# Altium integrated library Analog Devices Data Converters Analog-to-Digital Converters.IntLib: 2404 symbols (part 157 of 346)
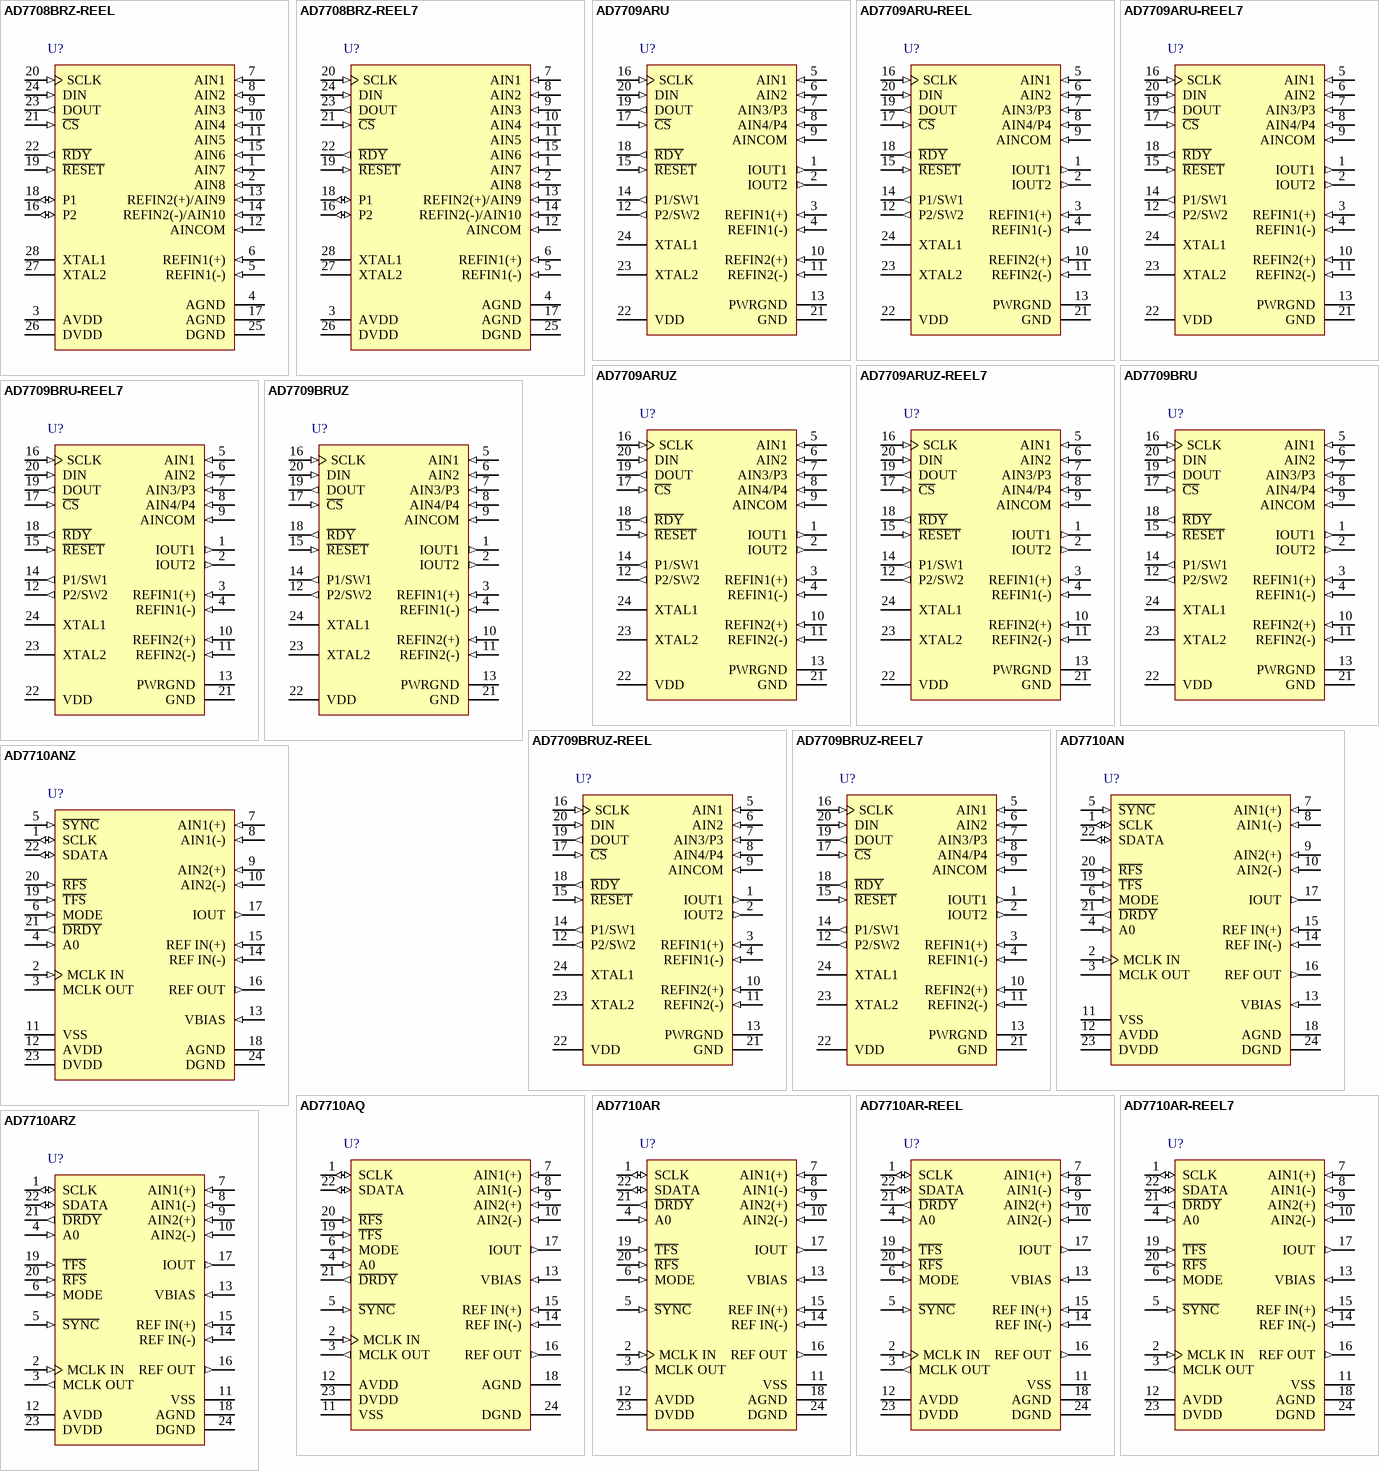
[diagram p241: symbols AD7708BRZ-REEL to AD7710ARZ]

## AD7708BRZ-REEL
designator U?
10 Channel 16-Bit Low Power Sigma-Delta Analog-to-Digital Converter with Serial, SPI Interface, 1.365KSPS, -40 to +85 degC, RW-28, Pb-Free, Reel; Generic Part Number: AD7708; Manufacturer: Analog Devices; PartNumber: AD7708BRZ-REEL; Resolution (Bits): 16; Channels: 10; Throughput Rate (SPS): 1.365K; Interface: Ser, SPI; DatasheetVersion: Rev.0; PackageVersion: 060706-A; PackageReference: RW-28; PackageDescription: 28-Lead Standard Small Outline Package [SOIC_W]; Supplier 1: Digi-Key; Supplier Part Number 1: AD7708BRZ-REEL-ND; Supplier 2: Mouser; Supplier Part Number 2: 584-AD7708BRZ-R; RoHS: Y; Packing: Reel; Mounting Technology: Surface Mount; Code_JEDEC: MS-013-AE; ComponentLink1Description: Manufacturer URL; ComponentLink1URL: http://www.analog.com/en/index.html; ComponentLink2Description: Datasheet; ComponentLink2URL: http://www.analog.com/static/imported-files/data_sheets/AD7708_7718.pdf; ComponentLink3Description: Package Specification; ComponentLink3URL: http://www.analog.com/static/imported-files/packages/35833120341221RW_28.pdf; ComponentLink4Description: Product URL; ComponentLink4URL: http://www.analog.com/en/analog-to-digital-converters/ad-converters/ad7708/products/product.html
footprint RW-28_N (SOIC, 28-Leads, Body 17.9x7.5mm, Pitch 1.27mm, IPC Medium Density)
footprint RW-28_L (SOIC, 28-Leads, Body 17.9x7.5mm, Pitch 1.27mm, IPC High Density)
footprint RW-28_M (SOIC, 28-Leads, Body 17.9x7.5mm, Pitch 1.27mm, IPC Low Density)
pins: 1 AIN7 (in) "Analog Input Channel 7. Programmable-gain analog input that can be used as a pseudo-differential input when used with AINCOM, or as the positive input of a fully-differential input pair when used with AIN8. (See ADC Control (See Datasheet)", 2 AIN8 (in) "Analog Input Channel 8. Programmable-gain analog input that can be used as a pseudo-differential input when used with AINCOM, or as the negative input of a fully-differential input pair when used with AIN7. (See ADC Control (See Datasheet)", 3 AVDD (power) "Analog Supply Voltage", 4 AGND (power) "Analog Ground", 5 REFIN1(-) (in) "Negative Reference Input. This reference input can lie anywhere between AGND and AVDD - 1 V.", 6 REFIN1(+) (in) "Positive reference input. REFIN(+) can lie anywhere between AVDD and AGND. The nominal reference voltage [REFIN(+)-REFIN(-)] is 2.5 V but the part is functional with a reference range from 1 V to AVDD.", 7 AIN1 (in) "Analog Input Channel 1. Programmable-gain analog input that can be used as a pseudo-differential input when used with AINCOM, or as the positive input of a fully-differential input pair when used with AIN2. (See ADC Control (See Datasheet)", 8 AIN2 (in) "Analog Input Channel 2. Programmable-gain analog input that can be used as a pseudo-differential input when used with AINCOM, or as the negative input of a fully-differential input pair when used with AIN1. (See ADC Control (See Datasheet)", 9 AIN3 (in) "Analog Input Channel 3. Programmable-gain analog input that can be used as a pseudo-differential input when used with AINCOM, or as the positive input of a fully-differential input pair when used with AIN4. (See ADC Control (See Datasheet)", 10 AIN4 (in) "Analog Input Channel 4. Programmable-gain analog input that can be used as a pseudo-differential input when used with AINCOM, or as the negative input of a fully-differential input pair when used with AIN3. (See ADC Control (See Datasheet)", 11 AIN5 (in) "Analog Input Channel 5. Programmable-gain analog input that can be used as a pseudo-differential input when used with AINCOM, or as the positive input of a fully-differential input pair when used with AIN6. (See ADC Control (See Datasheet)", 12 AINCOM (in) "All analog inputs are referenced to this input when configured in pseudo-differential input mode.", 13 REFIN2(+)/AIN9 (in) "Positive reference input/analog input. This input can be configured as a reference input with the same characteristics as REFIN1(+) or as an additional analog input. When configured as an analog input this pin provides a (See Datasheet)", 14 REFIN2(-)/AIN10 (in) "Negative reference input/analog input. This pin can be configured as a reference or analog input. When configured as a reference input it provides the negative reference input for REFIN2. When configured as an analog input (See Datasheet)", 15 AIN6 (in) "Analog Input Channel 6. Programmable-gain analog input that can be used as a pseudo-differential input when used with AINCOM, or as the negative input of a fully-differential input pair when used with AIN5. (See ADC Control (See Datasheet)", 16 P2 (io) "P2 can act as a general-purpose Input/Output bit referenced between AVDD and AGND. There is a weak pull-up to AVDD internally on this pin.", 17 AGND (power) "It is recommended that this pin be tied directly to AGND.", 18 P1 (io) "P1 can act as a general-purpose Input/Output bit referenced between AVDD and AGND. There is a weak pull-up to AVDD internally on this pin.", 19 ~{RESET} (in) "Digital input used to reset the ADC to its power-on-reset status. This pin has a weak pull-up internally to DVDD.", 20 SCLK (in) "Serial clock input for data transfers to and from the ADC. The SCLK has a Schmitt-trigger input making an opto-isolated interface more robust. The serial clock can be continuous with all data transmitted in a continuous (See Datasheet)", 21 ~{CS} (in) "Chip Select Input. This is an active low logic input used to select the AD7708/AD7718. C\S\ can be used to select the AD7708/AD7718 in systems with more than one device on the serial bus or as a frame synchronization signal (See Datasheet)", 22 ~{RDY} (out) "R\D\Y is a logic low status output from the AD7708/AD7718. R\D\Y is low when valid data exists in the data register for the selected channel. This output returns high on completion of a read operation from the data register. (See Datasheet)", 23 DOUT (out) "Serial data output with serial data being read from the output shift register of the ADC. The output shift register can contain data from any of the on-chip data, calibration or control registers.", 24 DIN (in) "Serial Data Input with serial data being written to the input shift register on the AD7708/AD7718 Data in this shift register is transferred to the calibration or control registers within the ADC depending on the selection (See Datasheet)", 25 DGND (power) "Ground Reference Point for the Digital Circuitry.", 26 DVDD (power) "Digital Supply Voltage, 3 V or 5 V Nominal.", 27 XTAL2 "Output from the 32 kHz Crystal Oscillator or Resonator Inverter.", 28 XTAL1 "Input to the 32 kHz Crystal Oscillator or Resonator Inverter."

## AD7708BRZ-REEL7
designator U?
10 Channel 16-Bit Low Power Sigma-Delta Analog-to-Digital Converter with Serial, SPI Interface, 1.365KSPS, -40 to +85 degC, RW-28, Pb-Free, Reel; Generic Part Number: AD7708; Manufacturer: Analog Devices; PartNumber: AD7708BRZ-REEL7; Resolution (Bits): 16; Channels: 10; Throughput Rate (SPS): 1.365K; Interface: Ser, SPI; DatasheetVersion: Rev.0; PackageVersion: 060706-A; PackageReference: RW-28; PackageDescription: 28-Lead Standard Small Outline Package [SOIC_W]; Supplier 1: Digi-Key; Supplier Part Number 1: AD7708BRZ-REEL7-ND; Supplier 2: Mouser; Supplier Part Number 2: 584-AD7708BRZ-R7; RoHS: Y; Packing: Reel; Mounting Technology: Surface Mount; Code_JEDEC: MS-013-AE; ComponentLink1Description: Manufacturer URL; ComponentLink1URL: http://www.analog.com/en/index.html; ComponentLink2Description: Datasheet; ComponentLink2URL: http://www.analog.com/static/imported-files/data_sheets/AD7708_7718.pdf; ComponentLink3Description: Package Specification; ComponentLink3URL: http://www.analog.com/static/imported-files/packages/35833120341221RW_28.pdf; ComponentLink4Description: Product URL; ComponentLink4URL: http://www.analog.com/en/analog-to-digital-converters/ad-converters/ad7708/products/product.html
footprint RW-28_N (SOIC, 28-Leads, Body 17.9x7.5mm, Pitch 1.27mm, IPC Medium Density)
footprint RW-28_L (SOIC, 28-Leads, Body 17.9x7.5mm, Pitch 1.27mm, IPC High Density)
footprint RW-28_M (SOIC, 28-Leads, Body 17.9x7.5mm, Pitch 1.27mm, IPC Low Density)
pins: 1 AIN7 (in) "Analog Input Channel 7. Programmable-gain analog input that can be used as a pseudo-differential input when used with AINCOM, or as the positive input of a fully-differential input pair when used with AIN8. (See ADC Control (See Datasheet)", 2 AIN8 (in) "Analog Input Channel 8. Programmable-gain analog input that can be used as a pseudo-differential input when used with AINCOM, or as the negative input of a fully-differential input pair when used with AIN7. (See ADC Control (See Datasheet)", 3 AVDD (power) "Analog Supply Voltage", 4 AGND (power) "Analog Ground", 5 REFIN1(-) (in) "Negative Reference Input. This reference input can lie anywhere between AGND and AVDD - 1 V.", 6 REFIN1(+) (in) "Positive reference input. REFIN(+) can lie anywhere between AVDD and AGND. The nominal reference voltage [REFIN(+)-REFIN(-)] is 2.5 V but the part is functional with a reference range from 1 V to AVDD.", 7 AIN1 (in) "Analog Input Channel 1. Programmable-gain analog input that can be used as a pseudo-differential input when used with AINCOM, or as the positive input of a fully-differential input pair when used with AIN2. (See ADC Control (See Datasheet)", 8 AIN2 (in) "Analog Input Channel 2. Programmable-gain analog input that can be used as a pseudo-differential input when used with AINCOM, or as the negative input of a fully-differential input pair when used with AIN1. (See ADC Control (See Datasheet)", 9 AIN3 (in) "Analog Input Channel 3. Programmable-gain analog input that can be used as a pseudo-differential input when used with AINCOM, or as the positive input of a fully-differential input pair when used with AIN4. (See ADC Control (See Datasheet)", 10 AIN4 (in) "Analog Input Channel 4. Programmable-gain analog input that can be used as a pseudo-differential input when used with AINCOM, or as the negative input of a fully-differential input pair when used with AIN3. (See ADC Control (See Datasheet)", 11 AIN5 (in) "Analog Input Channel 5. Programmable-gain analog input that can be used as a pseudo-differential input when used with AINCOM, or as the positive input of a fully-differential input pair when used with AIN6. (See ADC Control (See Datasheet)", 12 AINCOM (in) "All analog inputs are referenced to this input when configured in pseudo-differential input mode.", 13 REFIN2(+)/AIN9 (in) "Positive reference input/analog input. This input can be configured as a reference input with the same characteristics as REFIN1(+) or as an additional analog input. When configured as an analog input this pin provides a (See Datasheet)", 14 REFIN2(-)/AIN10 (in) "Negative reference input/analog input. This pin can be configured as a reference or analog input. When configured as a reference input it provides the negative reference input for REFIN2. When configured as an analog input (See Datasheet)", 15 AIN6 (in) "Analog Input Channel 6. Programmable-gain analog input that can be used as a pseudo-differential input when used with AINCOM, or as the negative input of a fully-differential input pair when used with AIN5. (See ADC Control (See Datasheet)", 16 P2 (io) "P2 can act as a general-purpose Input/Output bit referenced between AVDD and AGND. There is a weak pull-up to AVDD internally on this pin.", 17 AGND (power) "It is recommended that this pin be tied directly to AGND.", 18 P1 (io) "P1 can act as a general-purpose Input/Output bit referenced between AVDD and AGND. There is a weak pull-up to AVDD internally on this pin.", 19 ~{RESET} (in) "Digital input used to reset the ADC to its power-on-reset status. This pin has a weak pull-up internally to DVDD.", 20 SCLK (in) "Serial clock input for data transfers to and from the ADC. The SCLK has a Schmitt-trigger input making an opto-isolated interface more robust. The serial clock can be continuous with all data transmitted in a continuous (See Datasheet)", 21 ~{CS} (in) "Chip Select Input. This is an active low logic input used to select the AD7708/AD7718. C\S\ can be used to select the AD7708/AD7718 in systems with more than one device on the serial bus or as a frame synchronization signal (See Datasheet)", 22 ~{RDY} (out) "R\D\Y is a logic low status output from the AD7708/AD7718. R\D\Y is low when valid data exists in the data register for the selected channel. This output returns high on completion of a read operation from the data register. (See Datasheet)", 23 DOUT (out) "Serial data output with serial data being read from the output shift register of the ADC. The output shift register can contain data from any of the on-chip data, calibration or control registers.", 24 DIN (in) "Serial Data Input with serial data being written to the input shift register on the AD7708/AD7718 Data in this shift register is transferred to the calibration or control registers within the ADC depending on the selection (See Datasheet)", 25 DGND (power) "Ground Reference Point for the Digital Circuitry.", 26 DVDD (power) "Digital Supply Voltage, 3 V or 5 V Nominal.", 27 XTAL2 "Output from the 32 kHz Crystal Oscillator or Resonator Inverter.", 28 XTAL1 "Input to the 32 kHz Crystal Oscillator or Resonator Inverter."

## AD7709ARU
designator U?
Quad 16-Bit Sigma-Delta Analog-to-Digital Converter with Serial, SPI Interface, 105SPS, -40 to +85 degC, RU-24, Tube; Generic Part Number: AD7709; Manufacturer: Analog Devices; PartNumber: AD7709ARU; Resolution (Bits): 16; Channels: 4; Throughput Rate (SPS): 105; Interface: Ser, SPI; DatasheetVersion: Rev.A; PackageVersion: 2002; PackageReference: RU-24; PackageDescription: 24-Lead Thin Shrink Small Outline Package [TSSOP]; Supplier 1: Digi-Key; Supplier Part Number 1: AD7709ARU-ND; RoHS: N; Packing: Tube; Mounting Technology: Surface Mount; Code_JEDEC: MO-153-AD; ComponentLink1Description: Manufacturer URL; ComponentLink1URL: http://www.analog.com/en/index.html; ComponentLink2Description: Datasheet; ComponentLink2URL: http://www.analog.com/static/imported-files/data_sheets/AD7709.pdf; ComponentLink3Description: Package Specification; ComponentLink3URL: http://www.analog.com/static/imported-files/packages/380523655245964505593671154107510036154RU24.pdf; ComponentLink4Description: Product URL; ComponentLink4URL: http://www.analog.com/en/analog-to-digital-converters/ad-converters/ad7709/products/product.html
footprint RU-24_N (TSOP, 24-Leads, Body 7.8x4.4mm, Pitch 0.65mm, IPC Medium Density)
footprint RU-24_L (TSOP, 24-Leads, Body 7.8x4.4mm, Pitch 0.65mm, IPC High Density)
footprint RU-24_M (TSOP, 24-Leads, Body 7.8x4.4mm, Pitch 0.65mm, IPC Low Density)
pins: 1 IOUT1 (out) "Output for Internal Excitation Current Source. Either current source IEXC1, IEXC2, IEXC3, or a combination of the current sources, can be switched to this output.", 2 IOUT2 (out) "Output for Internal Excitation Current Source. Either current source IEXC1, IEXC2, IEXC3, or a combination of the current sources, can be switched to this output.", 3 REFIN1(+) (in) "Positive Reference Input. REFIN1(+) can lie anywhere between VDD and GND + 1 V. The nominal reference voltage (REFIN1(+) - REFIN1(-)) is 2.5 V, but the part is functional with a reference range from 1 V to VDD.", 4 REFIN1(-) (in) "Negative Reference Input. This reference input can lie anywhere between GND and VDD - 1 V.", 5 AIN1 (in) "Analog Input. Programmable gain input that can be used as a pseudo-differential input when used with AINCOM or as the positive input of a fully differential input pair when used with AIN2.", 6 AIN2 (in) "Analog Input. Programmable gain input that can be used as a pseudo-differential input when used with AINCOM or as the negative input of a fully differential input pair when used with AIN1.", 7 AIN3/P3 (in) "Analog Input/Digital Port Bit. Programmable gain input that can be used as a pseudo-differential input when used with AINCOM or as the positive input of a fully differential input pair when used with AIN4. This pin can also (See Datasheet)", 8 AIN4/P4 (in) "Analog Input/Digital Port Bit. Programmable gain input that can be used as a pseudo-differential input when used with AINCOM or as the negative input of a fully-differential input pair when used with AIN3. This pin can also (See Datasheet)", 9 AINCOM (in) "All analog inputs are referenced to this input when configured in pseudo-differential input mode.", 10 REFIN2(+) (in) "Positive Reference Input. REFIN2(+) can lie anywhere between VDD and GND + 1 V. The nominal reference voltage (REFIN2(+) - REFIN2(-)) is 2.5 V, but the part is functional with a reference range from 1 V to VDD.", 11 REFIN2(-) (in) "Negative Reference Input. This reference input can lie anywhere between GND and VDD - 1 V.", 12 P2/SW2 (out) "Dual-Purpose Pin. It can act as a general-purpose output (P2) bit or as a low-side power switch (SW2)  to PWRGND.", 13 PWRGND (power) "Ground Point for the Low-Side Power Switches SW2 and SW1. PWRGND must be tied to GND.", 14 P1/SW1 (out) "Dual-Purpose Pin. It can act as a general-purpose output (P1) bit or as a low-side power switch (SW1) to PWRGND.", 15 ~{RESET} (in) "Digital Input Used to Reset the ADC to Its Power-On-Reset Status. This pin has a weak pull-up internally to VDD.", 16 SCLK (in) "Serial Clock Input for Data Transfers to and from the ADC. The SCLK has a Schmitt-triggered input making the interface suitable for opto-isolated applications. The serial clock can be continuous with all data transmitted in (See Datasheet)", 17 ~{CS} (in) "Chip Select Input. This is an active low logic input used to select the AD7709. C\S\ can be used to select the AD7709 in systems with more than one device on the serial bus or as a frame synchronization signal in (See Datasheet)", 18 ~{RDY} (out) "R\D\Y\ is a Logic Low Status Output from the AD7709. R\D\Y\ is low if the ADC has valid data in its data register. This output returns high on completion of a read operation from the data register. If data is not read, (See Datasheet)", 19 DOUT (out) "Serial Data Output Accessing the Output Shift Register of the AD7709. The output shift register can contain data from any of the on-chip data or control registers.", 20 DIN (in) "Serial Data Input Accessing the Input Shift Register on the AD7709. Data in this shift register is transferred to the control registers within the ADC, the selection bits of the communications register selecting which (See Datasheet)", 21 GND (power) "Ground Reference Point for the AD7709", 22 VDD (power) "Supply Voltage, 3 V or 5 V Nominal", 23 XTAL2 "Output from the 32.768 kHz Crystal Oscillator Inverter", 24 XTAL1 "Input to the 32.768 kHz Crystal Oscillator Inverter"

## AD7709ARU-REEL
designator U?
Quad 16-Bit Sigma-Delta Analog-to-Digital Converter with Serial, SPI Interface, 105SPS, -40 to +85 degC, RU-24, Reel; Generic Part Number: AD7709; Manufacturer: Analog Devices; PartNumber: AD7709ARU-REEL; Resolution (Bits): 16; Channels: 4; Throughput Rate (SPS): 105; Interface: Ser, SPI; DatasheetVersion: Rev.A; PackageVersion: 2002; PackageReference: RU-24; PackageDescription: 24-Lead Thin Shrink Small Outline Package [TSSOP]; Supplier 1: Digi-Key; Supplier Part Number 1: AD7709ARU-REELTR-ND; Supplier 2: Digi-Key; Supplier Part Number 2: AD7709ARU-REELCT-ND; Supplier 3: Digi-Key; Supplier Part Number 3: AD7709ARU-REELDKR-ND; Supplier 4: Mouser; Supplier Part Number 4: 584-AD7709ARU-R; RoHS: N; Packing: Reel; Mounting Technology: Surface Mount; Code_JEDEC: MO-153-AD; ComponentLink1Description: Manufacturer URL; ComponentLink1URL: http://www.analog.com/en/index.html; ComponentLink2Description: Datasheet; ComponentLink2URL: http://www.analog.com/static/imported-files/data_sheets/AD7709.pdf; ComponentLink3Description: Package Specification; ComponentLink3URL: http://www.analog.com/static/imported-files/packages/380523655245964505593671154107510036154RU24.pdf; ComponentLink4Description: Product URL; ComponentLink4URL: http://www.analog.com/en/analog-to-digital-converters/ad-converters/ad7709/products/product.html
footprint RU-24_N (TSOP, 24-Leads, Body 7.8x4.4mm, Pitch 0.65mm, IPC Medium Density)
footprint RU-24_L (TSOP, 24-Leads, Body 7.8x4.4mm, Pitch 0.65mm, IPC High Density)
footprint RU-24_M (TSOP, 24-Leads, Body 7.8x4.4mm, Pitch 0.65mm, IPC Low Density)
pins: 1 IOUT1 (out) "Output for Internal Excitation Current Source. Either current source IEXC1, IEXC2, IEXC3, or a combination of the current sources, can be switched to this output.", 2 IOUT2 (out) "Output for Internal Excitation Current Source. Either current source IEXC1, IEXC2, IEXC3, or a combination of the current sources, can be switched to this output.", 3 REFIN1(+) (in) "Positive Reference Input. REFIN1(+) can lie anywhere between VDD and GND + 1 V. The nominal reference voltage (REFIN1(+) - REFIN1(-)) is 2.5 V, but the part is functional with a reference range from 1 V to VDD.", 4 REFIN1(-) (in) "Negative Reference Input. This reference input can lie anywhere between GND and VDD - 1 V.", 5 AIN1 (in) "Analog Input. Programmable gain input that can be used as a pseudo-differential input when used with AINCOM or as the positive input of a fully differential input pair when used with AIN2.", 6 AIN2 (in) "Analog Input. Programmable gain input that can be used as a pseudo-differential input when used with AINCOM or as the negative input of a fully differential input pair when used with AIN1.", 7 AIN3/P3 (in) "Analog Input/Digital Port Bit. Programmable gain input that can be used as a pseudo-differential input when used with AINCOM or as the positive input of a fully differential input pair when used with AIN4. This pin can also (See Datasheet)", 8 AIN4/P4 (in) "Analog Input/Digital Port Bit. Programmable gain input that can be used as a pseudo-differential input when used with AINCOM or as the negative input of a fully-differential input pair when used with AIN3. This pin can also (See Datasheet)", 9 AINCOM (in) "All analog inputs are referenced to this input when configured in pseudo-differential input mode.", 10 REFIN2(+) (in) "Positive Reference Input. REFIN2(+) can lie anywhere between VDD and GND + 1 V. The nominal reference voltage (REFIN2(+) - REFIN2(-)) is 2.5 V, but the part is functional with a reference range from 1 V to VDD.", 11 REFIN2(-) (in) "Negative Reference Input. This reference input can lie anywhere between GND and VDD - 1 V.", 12 P2/SW2 (out) "Dual-Purpose Pin. It can act as a general-purpose output (P2) bit or as a low-side power switch (SW2)  to PWRGND.", 13 PWRGND (power) "Ground Point for the Low-Side Power Switches SW2 and SW1. PWRGND must be tied to GND.", 14 P1/SW1 (out) "Dual-Purpose Pin. It can act as a general-purpose output (P1) bit or as a low-side power switch (SW1) to PWRGND.", 15 ~{RESET} (in) "Digital Input Used to Reset the ADC to Its Power-On-Reset Status. This pin has a weak pull-up internally to VDD.", 16 SCLK (in) "Serial Clock Input for Data Transfers to and from the ADC. The SCLK has a Schmitt-triggered input making the interface suitable for opto-isolated applications. The serial clock can be continuous with all data transmitted in (See Datasheet)", 17 ~{CS} (in) "Chip Select Input. This is an active low logic input used to select the AD7709. C\S\ can be used to select the AD7709 in systems with more than one device on the serial bus or as a frame synchronization signal in (See Datasheet)", 18 ~{RDY} (out) "R\D\Y\ is a Logic Low Status Output from the AD7709. R\D\Y\ is low if the ADC has valid data in its data register. This output returns high on completion of a read operation from the data register. If data is not read, (See Datasheet)", 19 DOUT (out) "Serial Data Output Accessing the Output Shift Register of the AD7709. The output shift register can contain data from any of the on-chip data or control registers.", 20 DIN (in) "Serial Data Input Accessing the Input Shift Register on the AD7709. Data in this shift register is transferred to the control registers within the ADC, the selection bits of the communications register selecting which (See Datasheet)", 21 GND (power) "Ground Reference Point for the AD7709", 22 VDD (power) "Supply Voltage, 3 V or 5 V Nominal", 23 XTAL2 "Output from the 32.768 kHz Crystal Oscillator Inverter", 24 XTAL1 "Input to the 32.768 kHz Crystal Oscillator Inverter"

## AD7709ARU-REEL7
designator U?
Quad 16-Bit Sigma-Delta Analog-to-Digital Converter with Serial, SPI Interface, 105SPS, -40 to +85 degC, RU-24, Reel; Generic Part Number: AD7709; Manufacturer: Analog Devices; PartNumber: AD7709ARU-REEL7; Resolution (Bits): 16; Channels: 4; Throughput Rate (SPS): 105; Interface: Ser, SPI; DatasheetVersion: Rev.A; PackageVersion: 2002; PackageReference: RU-24; PackageDescription: 24-Lead Thin Shrink Small Outline Package [TSSOP]; Supplier 1: Mouser; Supplier Part Number 1: N/A; RoHS: N; Packing: Reel; Mounting Technology: Surface Mount; Code_JEDEC: MO-153-AD; ComponentLink1Description: Manufacturer URL; ComponentLink1URL: http://www.analog.com/en/index.html; ComponentLink2Description: Datasheet; ComponentLink2URL: http://www.analog.com/static/imported-files/data_sheets/AD7709.pdf; ComponentLink3Description: Package Specification; ComponentLink3URL: http://www.analog.com/static/imported-files/packages/380523655245964505593671154107510036154RU24.pdf; ComponentLink4Description: Product URL; ComponentLink4URL: http://www.analog.com/en/analog-to-digital-converters/ad-converters/ad7709/products/product.html
footprint RU-24_N (TSOP, 24-Leads, Body 7.8x4.4mm, Pitch 0.65mm, IPC Medium Density)
footprint RU-24_L (TSOP, 24-Leads, Body 7.8x4.4mm, Pitch 0.65mm, IPC High Density)
footprint RU-24_M (TSOP, 24-Leads, Body 7.8x4.4mm, Pitch 0.65mm, IPC Low Density)
pins: 1 IOUT1 (out) "Output for Internal Excitation Current Source. Either current source IEXC1, IEXC2, IEXC3, or a combination of the current sources, can be switched to this output.", 2 IOUT2 (out) "Output for Internal Excitation Current Source. Either current source IEXC1, IEXC2, IEXC3, or a combination of the current sources, can be switched to this output.", 3 REFIN1(+) (in) "Positive Reference Input. REFIN1(+) can lie anywhere between VDD and GND + 1 V. The nominal reference voltage (REFIN1(+) - REFIN1(-)) is 2.5 V, but the part is functional with a reference range from 1 V to VDD.", 4 REFIN1(-) (in) "Negative Reference Input. This reference input can lie anywhere between GND and VDD - 1 V.", 5 AIN1 (in) "Analog Input. Programmable gain input that can be used as a pseudo-differential input when used with AINCOM or as the positive input of a fully differential input pair when used with AIN2.", 6 AIN2 (in) "Analog Input. Programmable gain input that can be used as a pseudo-differential input when used with AINCOM or as the negative input of a fully differential input pair when used with AIN1.", 7 AIN3/P3 (in) "Analog Input/Digital Port Bit. Programmable gain input that can be used as a pseudo-differential input when used with AINCOM or as the positive input of a fully differential input pair when used with AIN4. This pin can also (See Datasheet)", 8 AIN4/P4 (in) "Analog Input/Digital Port Bit. Programmable gain input that can be used as a pseudo-differential input when used with AINCOM or as the negative input of a fully-differential input pair when used with AIN3. This pin can also (See Datasheet)", 9 AINCOM (in) "All analog inputs are referenced to this input when configured in pseudo-differential input mode.", 10 REFIN2(+) (in) "Positive Reference Input. REFIN2(+) can lie anywhere between VDD and GND + 1 V. The nominal reference voltage (REFIN2(+) - REFIN2(-)) is 2.5 V, but the part is functional with a reference range from 1 V to VDD.", 11 REFIN2(-) (in) "Negative Reference Input. This reference input can lie anywhere between GND and VDD - 1 V.", 12 P2/SW2 (out) "Dual-Purpose Pin. It can act as a general-purpose output (P2) bit or as a low-side power switch (SW2)  to PWRGND.", 13 PWRGND (power) "Ground Point for the Low-Side Power Switches SW2 and SW1. PWRGND must be tied to GND.", 14 P1/SW1 (out) "Dual-Purpose Pin. It can act as a general-purpose output (P1) bit or as a low-side power switch (SW1) to PWRGND.", 15 ~{RESET} (in) "Digital Input Used to Reset the ADC to Its Power-On-Reset Status. This pin has a weak pull-up internally to VDD.", 16 SCLK (in) "Serial Clock Input for Data Transfers to and from the ADC. The SCLK has a Schmitt-triggered input making the interface suitable for opto-isolated applications. The serial clock can be continuous with all data transmitted in (See Datasheet)", 17 ~{CS} (in) "Chip Select Input. This is an active low logic input used to select the AD7709. C\S\ can be used to select the AD7709 in systems with more than one device on the serial bus or as a frame synchronization signal in (See Datasheet)", 18 ~{RDY} (out) "R\D\Y\ is a Logic Low Status Output from the AD7709. R\D\Y\ is low if the ADC has valid data in its data register. This output returns high on completion of a read operation from the data register. If data is not read, (See Datasheet)", 19 DOUT (out) "Serial Data Output Accessing the Output Shift Register of the AD7709. The output shift register can contain data from any of the on-chip data or control registers.", 20 DIN (in) "Serial Data Input Accessing the Input Shift Register on the AD7709. Data in this shift register is transferred to the control registers within the ADC, the selection bits of the communications register selecting which (See Datasheet)", 21 GND (power) "Ground Reference Point for the AD7709", 22 VDD (power) "Supply Voltage, 3 V or 5 V Nominal", 23 XTAL2 "Output from the 32.768 kHz Crystal Oscillator Inverter", 24 XTAL1 "Input to the 32.768 kHz Crystal Oscillator Inverter"

## AD7709ARUZ
designator U?
Quad 16-Bit Sigma-Delta Analog-to-Digital Converter with Serial, SPI Interface, 105SPS, -40 to +85 degC, RU-24, Pb-Free, Tube; Generic Part Number: AD7709; Manufacturer: Analog Devices; PartNumber: AD7709ARUZ; Resolution (Bits): 16; Channels: 4; Throughput Rate (SPS): 105; Interface: Ser, SPI; DatasheetVersion: Rev.A; PackageVersion: 2002; PackageReference: RU-24; PackageDescription: 24-Lead Thin Shrink Small Outline Package [TSSOP]; Supplier 1: Digi-Key; Supplier Part Number 1: AD7709ARUZ-ND; Supplier 2: Newark; Supplier Part Number 2: 59K5304; Supplier 3: Mouser; Supplier Part Number 3: 584-AD7709ARUZ; RoHS: Y; Packing: Tube; Mounting Technology: Surface Mount; Code_JEDEC: MO-153-AD; ComponentLink1Description: Manufacturer URL; ComponentLink1URL: http://www.analog.com/en/index.html; ComponentLink2Description: Datasheet; ComponentLink2URL: http://www.analog.com/static/imported-files/data_sheets/AD7709.pdf; ComponentLink3Description: Package Specification; ComponentLink3URL: http://www.analog.com/static/imported-files/packages/380523655245964505593671154107510036154RU24.pdf; ComponentLink4Description: Product URL; ComponentLink4URL: http://www.analog.com/en/analog-to-digital-converters/ad-converters/ad7709/products/product.html
footprint RU-24_N (TSOP, 24-Leads, Body 7.8x4.4mm, Pitch 0.65mm, IPC Medium Density)
footprint RU-24_L (TSOP, 24-Leads, Body 7.8x4.4mm, Pitch 0.65mm, IPC High Density)
footprint RU-24_M (TSOP, 24-Leads, Body 7.8x4.4mm, Pitch 0.65mm, IPC Low Density)
pins: 1 IOUT1 (out) "Output for Internal Excitation Current Source. Either current source IEXC1, IEXC2, IEXC3, or a combination of the current sources, can be switched to this output.", 2 IOUT2 (out) "Output for Internal Excitation Current Source. Either current source IEXC1, IEXC2, IEXC3, or a combination of the current sources, can be switched to this output.", 3 REFIN1(+) (in) "Positive Reference Input. REFIN1(+) can lie anywhere between VDD and GND + 1 V. The nominal reference voltage (REFIN1(+) - REFIN1(-)) is 2.5 V, but the part is functional with a reference range from 1 V to VDD.", 4 REFIN1(-) (in) "Negative Reference Input. This reference input can lie anywhere between GND and VDD - 1 V.", 5 AIN1 (in) "Analog Input. Programmable gain input that can be used as a pseudo-differential input when used with AINCOM or as the positive input of a fully differential input pair when used with AIN2.", 6 AIN2 (in) "Analog Input. Programmable gain input that can be used as a pseudo-differential input when used with AINCOM or as the negative input of a fully differential input pair when used with AIN1.", 7 AIN3/P3 (in) "Analog Input/Digital Port Bit. Programmable gain input that can be used as a pseudo-differential input when used with AINCOM or as the positive input of a fully differential input pair when used with AIN4. This pin can also (See Datasheet)", 8 AIN4/P4 (in) "Analog Input/Digital Port Bit. Programmable gain input that can be used as a pseudo-differential input when used with AINCOM or as the negative input of a fully-differential input pair when used with AIN3. This pin can also (See Datasheet)", 9 AINCOM (in) "All analog inputs are referenced to this input when configured in pseudo-differential input mode.", 10 REFIN2(+) (in) "Positive Reference Input. REFIN2(+) can lie anywhere between VDD and GND + 1 V. The nominal reference voltage (REFIN2(+) - REFIN2(-)) is 2.5 V, but the part is functional with a reference range from 1 V to VDD.", 11 REFIN2(-) (in) "Negative Reference Input. This reference input can lie anywhere between GND and VDD - 1 V.", 12 P2/SW2 (out) "Dual-Purpose Pin. It can act as a general-purpose output (P2) bit or as a low-side power switch (SW2)  to PWRGND.", 13 PWRGND (power) "Ground Point for the Low-Side Power Switches SW2 and SW1. PWRGND must be tied to GND.", 14 P1/SW1 (out) "Dual-Purpose Pin. It can act as a general-purpose output (P1) bit or as a low-side power switch (SW1) to PWRGND.", 15 ~{RESET} (in) "Digital Input Used to Reset the ADC to Its Power-On-Reset Status. This pin has a weak pull-up internally to VDD.", 16 SCLK (in) "Serial Clock Input for Data Transfers to and from the ADC. The SCLK has a Schmitt-triggered input making the interface suitable for opto-isolated applications. The serial clock can be continuous with all data transmitted in (See Datasheet)", 17 ~{CS} (in) "Chip Select Input. This is an active low logic input used to select the AD7709. C\S\ can be used to select the AD7709 in systems with more than one device on the serial bus or as a frame synchronization signal in (See Datasheet)", 18 ~{RDY} (out) "R\D\Y\ is a Logic Low Status Output from the AD7709. R\D\Y\ is low if the ADC has valid data in its data register. This output returns high on completion of a read operation from the data register. If data is not read, (See Datasheet)", 19 DOUT (out) "Serial Data Output Accessing the Output Shift Register of the AD7709. The output shift register can contain data from any of the on-chip data or control registers.", 20 DIN (in) "Serial Data Input Accessing the Input Shift Register on the AD7709. Data in this shift register is transferred to the control registers within the ADC, the selection bits of the communications register selecting which (See Datasheet)", 21 GND (power) "Ground Reference Point for the AD7709", 22 VDD (power) "Supply Voltage, 3 V or 5 V Nominal", 23 XTAL2 "Output from the 32.768 kHz Crystal Oscillator Inverter", 24 XTAL1 "Input to the 32.768 kHz Crystal Oscillator Inverter"

## AD7709ARUZ-REEL7
designator U?
Quad 16-Bit Sigma-Delta Analog-to-Digital Converter with Serial, SPI Interface, 105SPS, -40 to +85 degC, RU-24, Pb-Free, Reel; Generic Part Number: AD7709; Manufacturer: Analog Devices; PartNumber: AD7709ARUZ-REEL7; Resolution (Bits): 16; Channels: 4; Throughput Rate (SPS): 105; Interface: Ser, SPI; DatasheetVersion: Rev.A; PackageVersion: 2002; PackageReference: RU-24; PackageDescription: 24-Lead Thin Shrink Small Outline Package [TSSOP]; Supplier 1: Digi-Key; Supplier Part Number 1: AD7709ARUZ-REEL7-ND; Supplier 2: Mouser; Supplier Part Number 2: 584-AD7709ARUZ-R7; RoHS: Y; Packing: Reel; Mounting Technology: Surface Mount; Code_JEDEC: MO-153-AD; ComponentLink1Description: Manufacturer URL; ComponentLink1URL: http://www.analog.com/en/index.html; ComponentLink2Description: Datasheet; ComponentLink2URL: http://www.analog.com/static/imported-files/data_sheets/AD7709.pdf; ComponentLink3Description: Package Specification; ComponentLink3URL: http://www.analog.com/static/imported-files/packages/380523655245964505593671154107510036154RU24.pdf; ComponentLink4Description: Product URL; ComponentLink4URL: http://www.analog.com/en/analog-to-digital-converters/ad-converters/ad7709/products/product.html
footprint RU-24_N (TSOP, 24-Leads, Body 7.8x4.4mm, Pitch 0.65mm, IPC Medium Density)
footprint RU-24_L (TSOP, 24-Leads, Body 7.8x4.4mm, Pitch 0.65mm, IPC High Density)
footprint RU-24_M (TSOP, 24-Leads, Body 7.8x4.4mm, Pitch 0.65mm, IPC Low Density)
pins: 1 IOUT1 (out) "Output for Internal Excitation Current Source. Either current source IEXC1, IEXC2, IEXC3, or a combination of the current sources, can be switched to this output.", 2 IOUT2 (out) "Output for Internal Excitation Current Source. Either current source IEXC1, IEXC2, IEXC3, or a combination of the current sources, can be switched to this output.", 3 REFIN1(+) (in) "Positive Reference Input. REFIN1(+) can lie anywhere between VDD and GND + 1 V. The nominal reference voltage (REFIN1(+) - REFIN1(-)) is 2.5 V, but the part is functional with a reference range from 1 V to VDD.", 4 REFIN1(-) (in) "Negative Reference Input. This reference input can lie anywhere between GND and VDD - 1 V.", 5 AIN1 (in) "Analog Input. Programmable gain input that can be used as a pseudo-differential input when used with AINCOM or as the positive input of a fully differential input pair when used with AIN2.", 6 AIN2 (in) "Analog Input. Programmable gain input that can be used as a pseudo-differential input when used with AINCOM or as the negative input of a fully differential input pair when used with AIN1.", 7 AIN3/P3 (in) "Analog Input/Digital Port Bit. Programmable gain input that can be used as a pseudo-differential input when used with AINCOM or as the positive input of a fully differential input pair when used with AIN4. This pin can also (See Datasheet)", 8 AIN4/P4 (in) "Analog Input/Digital Port Bit. Programmable gain input that can be used as a pseudo-differential input when used with AINCOM or as the negative input of a fully-differential input pair when used with AIN3. This pin can also (See Datasheet)", 9 AINCOM (in) "All analog inputs are referenced to this input when configured in pseudo-differential input mode.", 10 REFIN2(+) (in) "Positive Reference Input. REFIN2(+) can lie anywhere between VDD and GND + 1 V. The nominal reference voltage (REFIN2(+) - REFIN2(-)) is 2.5 V, but the part is functional with a reference range from 1 V to VDD.", 11 REFIN2(-) (in) "Negative Reference Input. This reference input can lie anywhere between GND and VDD - 1 V.", 12 P2/SW2 (out) "Dual-Purpose Pin. It can act as a general-purpose output (P2) bit or as a low-side power switch (SW2)  to PWRGND.", 13 PWRGND (power) "Ground Point for the Low-Side Power Switches SW2 and SW1. PWRGND must be tied to GND.", 14 P1/SW1 (out) "Dual-Purpose Pin. It can act as a general-purpose output (P1) bit or as a low-side power switch (SW1) to PWRGND.", 15 ~{RESET} (in) "Digital Input Used to Reset the ADC to Its Power-On-Reset Status. This pin has a weak pull-up internally to VDD.", 16 SCLK (in) "Serial Clock Input for Data Transfers to and from the ADC. The SCLK has a Schmitt-triggered input making the interface suitable for opto-isolated applications. The serial clock can be continuous with all data transmitted in (See Datasheet)", 17 ~{CS} (in) "Chip Select Input. This is an active low logic input used to select the AD7709. C\S\ can be used to select the AD7709 in systems with more than one device on the serial bus or as a frame synchronization signal in (See Datasheet)", 18 ~{RDY} (out) "R\D\Y\ is a Logic Low Status Output from the AD7709. R\D\Y\ is low if the ADC has valid data in its data register. This output returns high on completion of a read operation from the data register. If data is not read, (See Datasheet)", 19 DOUT (out) "Serial Data Output Accessing the Output Shift Register of the AD7709. The output shift register can contain data from any of the on-chip data or control registers.", 20 DIN (in) "Serial Data Input Accessing the Input Shift Register on the AD7709. Data in this shift register is transferred to the control registers within the ADC, the selection bits of the communications register selecting which (See Datasheet)", 21 GND (power) "Ground Reference Point for the AD7709", 22 VDD (power) "Supply Voltage, 3 V or 5 V Nominal", 23 XTAL2 "Output from the 32.768 kHz Crystal Oscillator Inverter", 24 XTAL1 "Input to the 32.768 kHz Crystal Oscillator Inverter"

## AD7709BRU
designator U?
Quad 16-Bit Sigma-Delta Analog-to-Digital Converter with Serial, SPI Interface, 105SPS, -40 to +85 degC, RU-24, Tube; Generic Part Number: AD7709; Manufacturer: Analog Devices; PartNumber: AD7709BRU; Resolution (Bits): 16; Channels: 4; Throughput Rate (SPS): 105; Interface: Ser, SPI; DatasheetVersion: Rev.A; PackageVersion: 2002; PackageReference: RU-24; PackageDescription: 24-Lead Thin Shrink Small Outline Package [TSSOP]; Supplier 1: Digi-Key; Supplier Part Number 1: AD7709BRU-ND; Supplier 2: Mouser; Supplier Part Number 2: 584-AD7709BRU; RoHS: N; Packing: Tube; Mounting Technology: Surface Mount; Code_JEDEC: MO-153-AD; ComponentLink1Description: Manufacturer URL; ComponentLink1URL: http://www.analog.com/en/index.html; ComponentLink2Description: Datasheet; ComponentLink2URL: http://www.analog.com/static/imported-files/data_sheets/AD7709.pdf; ComponentLink3Description: Package Specification; ComponentLink3URL: http://www.analog.com/static/imported-files/packages/380523655245964505593671154107510036154RU24.pdf; ComponentLink4Description: Product URL; ComponentLink4URL: http://www.analog.com/en/analog-to-digital-converters/ad-converters/ad7709/products/product.html
footprint RU-24_N (TSOP, 24-Leads, Body 7.8x4.4mm, Pitch 0.65mm, IPC Medium Density)
footprint RU-24_L (TSOP, 24-Leads, Body 7.8x4.4mm, Pitch 0.65mm, IPC High Density)
footprint RU-24_M (TSOP, 24-Leads, Body 7.8x4.4mm, Pitch 0.65mm, IPC Low Density)
pins: 1 IOUT1 (out) "Output for Internal Excitation Current Source. Either current source IEXC1, IEXC2, IEXC3, or a combination of the current sources, can be switched to this output.", 2 IOUT2 (out) "Output for Internal Excitation Current Source. Either current source IEXC1, IEXC2, IEXC3, or a combination of the current sources, can be switched to this output.", 3 REFIN1(+) (in) "Positive Reference Input. REFIN1(+) can lie anywhere between VDD and GND + 1 V. The nominal reference voltage (REFIN1(+) - REFIN1(-)) is 2.5 V, but the part is functional with a reference range from 1 V to VDD.", 4 REFIN1(-) (in) "Negative Reference Input. This reference input can lie anywhere between GND and VDD - 1 V.", 5 AIN1 (in) "Analog Input. Programmable gain input that can be used as a pseudo-differential input when used with AINCOM or as the positive input of a fully differential input pair when used with AIN2.", 6 AIN2 (in) "Analog Input. Programmable gain input that can be used as a pseudo-differential input when used with AINCOM or as the negative input of a fully differential input pair when used with AIN1.", 7 AIN3/P3 (in) "Analog Input/Digital Port Bit. Programmable gain input that can be used as a pseudo-differential input when used with AINCOM or as the positive input of a fully differential input pair when used with AIN4. This pin can also (See Datasheet)", 8 AIN4/P4 (in) "Analog Input/Digital Port Bit. Programmable gain input that can be used as a pseudo-differential input when used with AINCOM or as the negative input of a fully-differential input pair when used with AIN3. This pin can also (See Datasheet)", 9 AINCOM (in) "All analog inputs are referenced to this input when configured in pseudo-differential input mode.", 10 REFIN2(+) (in) "Positive Reference Input. REFIN2(+) can lie anywhere between VDD and GND + 1 V. The nominal reference voltage (REFIN2(+) - REFIN2(-)) is 2.5 V, but the part is functional with a reference range from 1 V to VDD.", 11 REFIN2(-) (in) "Negative Reference Input. This reference input can lie anywhere between GND and VDD - 1 V.", 12 P2/SW2 (out) "Dual-Purpose Pin. It can act as a general-purpose output (P2) bit or as a low-side power switch (SW2)  to PWRGND.", 13 PWRGND (power) "Ground Point for the Low-Side Power Switches SW2 and SW1. PWRGND must be tied to GND.", 14 P1/SW1 (out) "Dual-Purpose Pin. It can act as a general-purpose output (P1) bit or as a low-side power switch (SW1) to PWRGND.", 15 ~{RESET} (in) "Digital Input Used to Reset the ADC to Its Power-On-Reset Status. This pin has a weak pull-up internally to VDD.", 16 SCLK (in) "Serial Clock Input for Data Transfers to and from the ADC. The SCLK has a Schmitt-triggered input making the interface suitable for opto-isolated applications. The serial clock can be continuous with all data transmitted in (See Datasheet)", 17 ~{CS} (in) "Chip Select Input. This is an active low logic input used to select the AD7709. C\S\ can be used to select the AD7709 in systems with more than one device on the serial bus or as a frame synchronization signal in (See Datasheet)", 18 ~{RDY} (out) "R\D\Y\ is a Logic Low Status Output from the AD7709. R\D\Y\ is low if the ADC has valid data in its data register. This output returns high on completion of a read operation from the data register. If data is not read, (See Datasheet)", 19 DOUT (out) "Serial Data Output Accessing the Output Shift Register of the AD7709. The output shift register can contain data from any of the on-chip data or control registers.", 20 DIN (in) "Serial Data Input Accessing the Input Shift Register on the AD7709. Data in this shift register is transferred to the control registers within the ADC, the selection bits of the communications register selecting which (See Datasheet)", 21 GND (power) "Ground Reference Point for the AD7709", 22 VDD (power) "Supply Voltage, 3 V or 5 V Nominal", 23 XTAL2 "Output from the 32.768 kHz Crystal Oscillator Inverter", 24 XTAL1 "Input to the 32.768 kHz Crystal Oscillator Inverter"